# EAGLE library part AD8235 (library DAC)
40 ?A Micropower Instrumentation Amplifier in WLCSP Package Source: http://www.analog.com/static/imported-files/data_sheets/AD8235.pdf
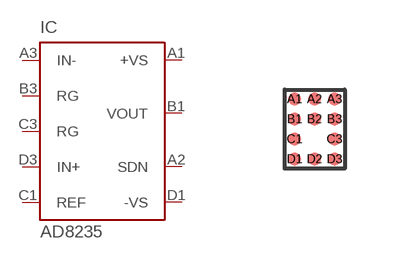
[diagram p141: symbol with the pads of BGA_CB11; footprint BGA_CB11]

Designator prefix IC

## AD8235 (MPN: AD8235ACBZ-P7; OC_FARNELL: 1827361; OC_NEWARK: 35R0266)  [BGA_CB11]
A1  +VS  pwr
A2  SDN  pas
A3  IN-  in
B1  VOUT  out
B3  RG  in
C1  REF  in
C3  RG  in
D1  -VS  pwr
D3  IN+  in

## Footprint BGA_CB11 (pad centres in mm)
11-Ball, Backside-Coated, Wafer Level Chip Scale Package WLCSP CB-11-1 Source: http://www.analog.com/static/imported-files/data_sheets/AD8235.pdf
smd 0.33 x 0.33: A1 -0.5,0.75; A2 0,0.75; A3 0.5,0.75; B1 -0.5,0.25; B2 0,0.25; B3 0.5,0.25; C1 -0.5,-0.25; C3 0.5,-0.25; D1 -0.5,-0.75; D2 0,-0.75; D3 0.5,-0.75